# Altium schematic symbol library kmilo17pet-TI_StepDown.SchLib: 565 symbols (part 17 of 33)
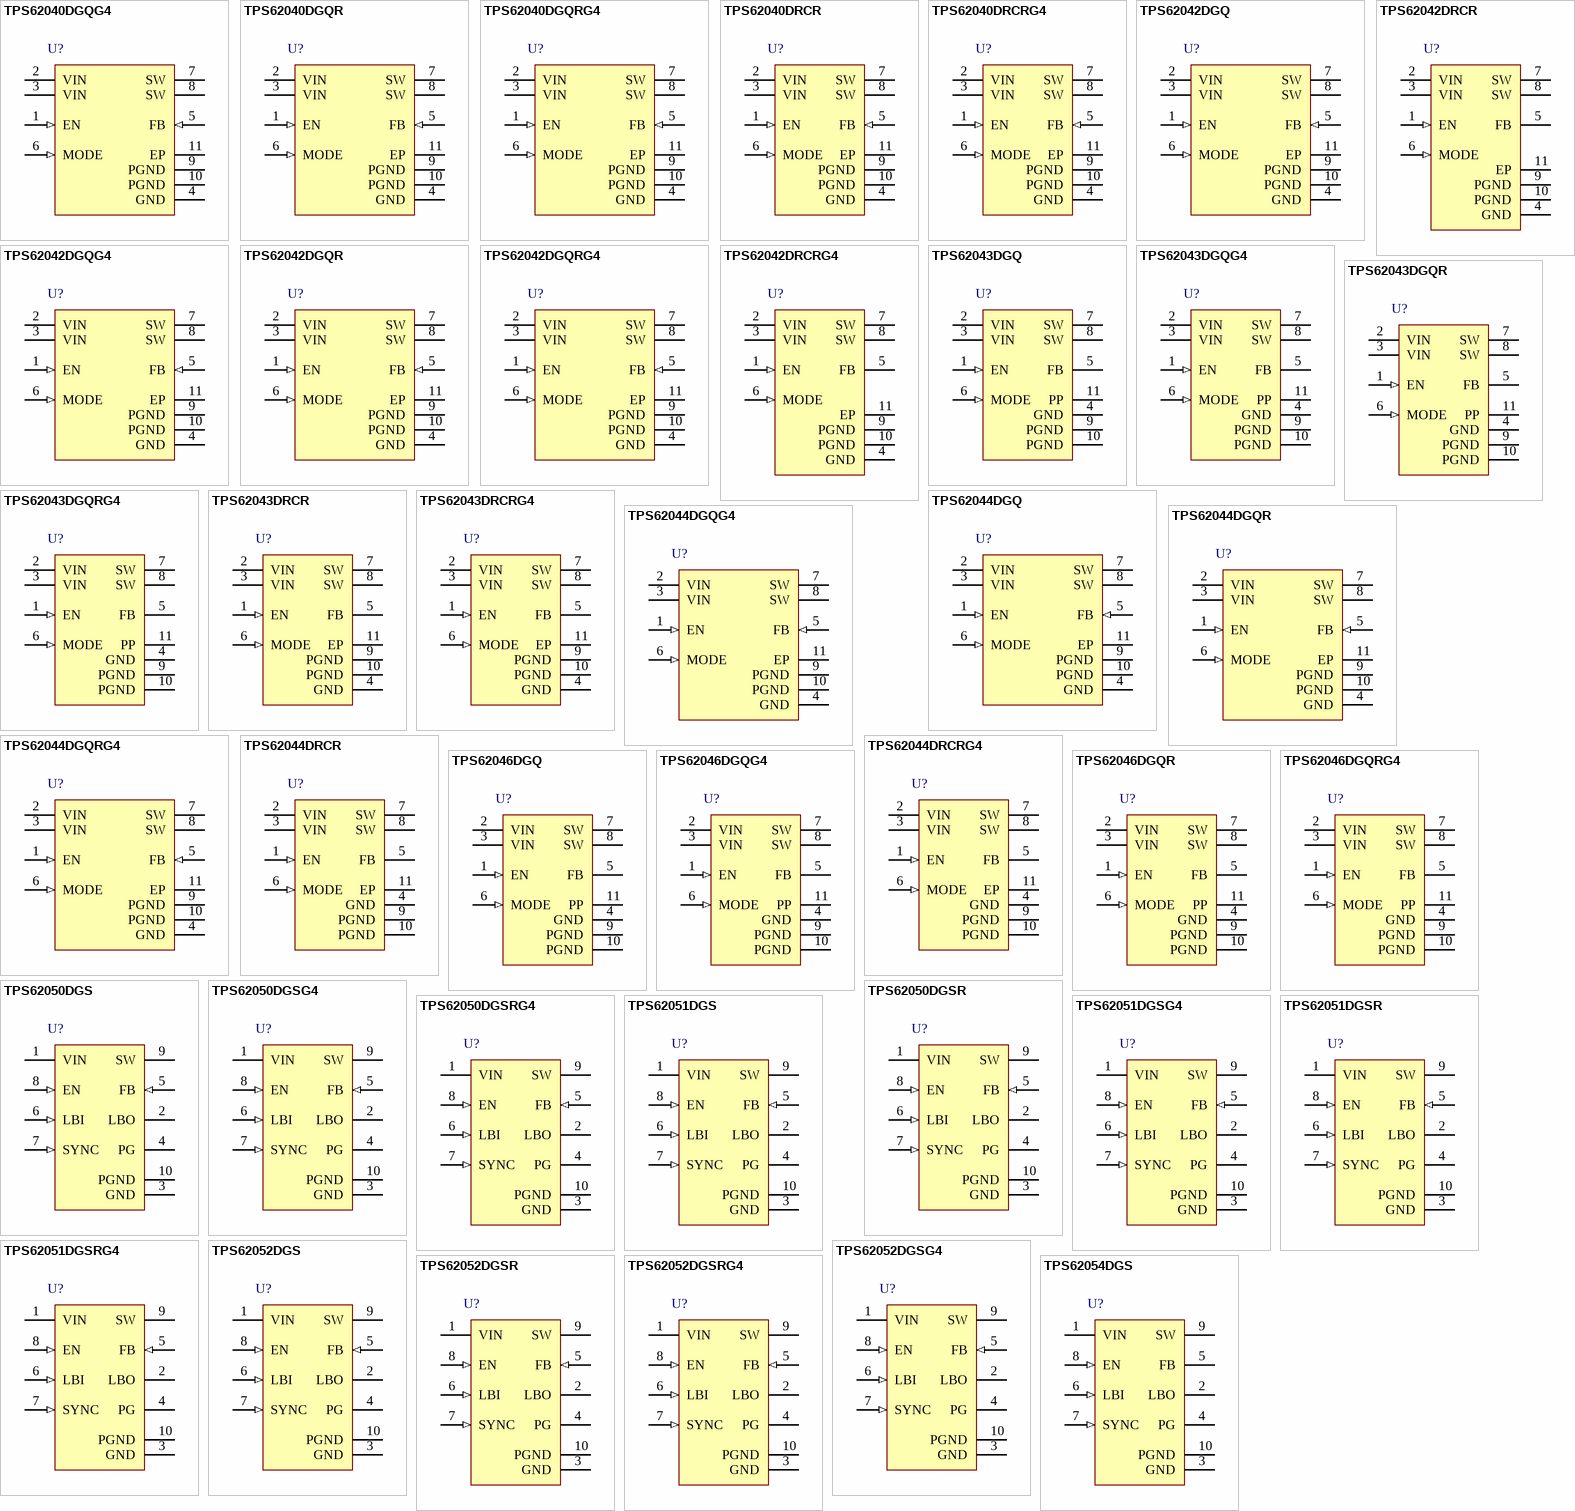
[diagram p35: symbols TPS62040DGQG4 to TPS62054DGS]

## TPS62051DGSR
designator U?
Buck Adjustable Regulator with 2.7 to 10 V Input and 0.7 to 6 V Output, -40 to 85 degC, 10-Pin MSOP (DGS), Green (RoHS & no Sb/Br); Manufacturer: Texas Instruments; PartNumber: TPS62051DGSR; Duty Cycle(Max)(%): 100; Iout(Max)(A): 0.8; Iq(Typ)(mA): 0.012; Rating: Catalog; Regulated Outputs(#): 1; SubFamily: Step-Down Regulator; Switch Current Limit(Typ)(A): 1.4; Synchronous Rectification: TRUE; Vin(Max)(V): 10; Vin(Min)(V): 2.7; Vout(Max)(V): 6; Vout(Min)(V): 0.7; DatasheetVersion: SLVS432E; PackageVersion: revC, Feb-2004; PackageReference: DGS10; PackageDescription: 10-Pin Thin Shrink Small Outline Package 0.5 mm Pitch; Supplier 1: Digi-Key; Supplier Part Number 1: TPS62051DGSR-ND; Eco-Plan: Green (RoHS & no Sb/Br); Topology: Buck; Mounting Technology: Surface Mount; Code_JEDEC: MO-187-BA; ComponentLink1Description: Datasheet; ComponentLink1URL: http://www.ti.com/general/docs/lit/getliterature.tsp?genericPartNumber=TPS62051&fileType=pdf; ComponentLink2Description: Package Specification; ComponentLink2URL: http://www.ti.com/litv/pdf/mpds373; ComponentLink3Description: URL Link1; ComponentLink3URL: Samples URL:http://www.ti.com/product/tps62051#samples
footprint DGS10_N (TSSOP, 10-Leads, Body 3x3mm, Pitch 0.5mm, IPC Medium Density)
footprint DGS10_L (TSSOP, 10-Leads, Body 3x3mm, Pitch 0.5mm, IPC High Density)
footprint DGS10_M (TSSOP, 10-Leads, Body 3x3mm, Pitch 0.5mm, IPC Low Density)
pins: 1 VIN (power) "Supply voltage input", 2 LBO (hiz) "Open drain low battery output. Logic low signal indicates a low battery voltage.", 3 GND (power) "Ground", 4 PG (oc) "Power good comparator output. This is an open-drain output. A pullup resistor should be connected between PG and VOUT. The output floats when the output voltage is greater than 95% of the nominal value.", 5 FB (in) "Feedback pin for the fixed output voltage option. For the adjustable version, an external resistive divider is connected to this pin. The internal voltage divider is disabled for the adjustable version.", 6 LBI (in) "Low battery input", 7 SYNC (in) "Input for synchronization to the external clock signal. This input can be connected to an external clock or pulled to GND or VI . When an external clock signal is applied, the device synchronizes to this external clock and (See Datasheet)", 8 EN (in) "Enable. A logic high enables the converter, logic low forces the device into shutdown mode, reducing the supply current to less than 2 µA.", 9 SW (power) "Connect the inductor to this pin. This pin is the switch pin and connected to the drain of the internal power MOSFETS.", 10 PGND (power) "Power ground. Connect all power grounds to this pin."

## TPS62051DGSRG4
designator U?
Buck Adjustable Regulator with 2.7 to 10 V Input and 0.7 to 6 V Output, -40 to 85 degC, 10-Pin MSOP (DGS), Green (RoHS & no Sb/Br); Manufacturer: Texas Instruments; PartNumber: TPS62051DGSRG4; Duty Cycle(Max)(%): 100; Iout(Max)(A): 0.8; Iq(Typ)(mA): 0.012; Rating: Catalog; Regulated Outputs(#): 1; SubFamily: Step-Down Regulator; Switch Current Limit(Typ)(A): 1.4; Synchronous Rectification: TRUE; Vin(Max)(V): 10; Vin(Min)(V): 2.7; Vout(Max)(V): 6; Vout(Min)(V): 0.7; DatasheetVersion: SLVS432E; PackageVersion: revC, Feb-2004; PackageReference: DGS10; PackageDescription: 10-Pin Thin Shrink Small Outline Package 0.5 mm Pitch; Supplier 1: Digi-Key; Supplier Part Number 1: TPS62051DGSRG4-ND; Eco-Plan: Green (RoHS & no Sb/Br); Topology: Buck; Mounting Technology: Surface Mount; Code_JEDEC: MO-187-BA; ComponentLink1Description: Datasheet; ComponentLink1URL: http://www.ti.com/general/docs/lit/getliterature.tsp?genericPartNumber=TPS62051&fileType=pdf; ComponentLink2Description: Package Specification; ComponentLink2URL: http://www.ti.com/litv/pdf/mpds373; ComponentLink3Description: URL Link1; ComponentLink3URL: Samples URL:http://www.ti.com/product/tps54611#samples
footprint DGS10_N (TSSOP, 10-Leads, Body 3x3mm, Pitch 0.5mm, IPC Medium Density)
footprint DGS10_L (TSSOP, 10-Leads, Body 3x3mm, Pitch 0.5mm, IPC High Density)
footprint DGS10_M (TSSOP, 10-Leads, Body 3x3mm, Pitch 0.5mm, IPC Low Density)
pins: 1 VIN (power) "Supply voltage input", 2 LBO (hiz) "Open drain low battery output. Logic low signal indicates a low battery voltage.", 3 GND (power) "Ground", 4 PG (oc) "Power good comparator output. This is an open-drain output. A pullup resistor should be connected between PG and VOUT. The output floats when the output voltage is greater than 95% of the nominal value.", 5 FB (in) "Feedback pin for the fixed output voltage option. For the adjustable version, an external resistive divider is connected to this pin. The internal voltage divider is disabled for the adjustable version.", 6 LBI (in) "Low battery input", 7 SYNC (in) "Input for synchronization to the external clock signal. This input can be connected to an external clock or pulled to GND or VI . When an external clock signal is applied, the device synchronizes to this external clock and (See Datasheet)", 8 EN (in) "Enable. A logic high enables the converter, logic low forces the device into shutdown mode, reducing the supply current to less than 2 µA.", 9 SW (power) "Connect the inductor to this pin. This pin is the switch pin and connected to the drain of the internal power MOSFETS.", 10 PGND (power) "Power ground. Connect all power grounds to this pin."

## TPS62052DGS
designator U?
Buck Step Down Regulator with 2.7 to 10 V Input and 1.5 V Output, -40 to 85 degC, 10-Pin MSOP (DGS), Green (RoHS & no Sb/Br); Manufacturer: Texas Instruments; PartNumber: TPS62052DGS; Duty Cycle(Max)(%): 100; Iout(Max)(A): 0.8; Iq(Typ)(mA): 0.012; Preset Vout(V): 1.5; Rating: Catalog; Regulated Outputs(#): 1; SubFamily: Step-Down Regulator; Switch Current Limit(Typ)(A): 1.4; Synchronous Rectification: TRUE; Vin(Max)(V): 10; Vin(Min)(V): 2.7; DatasheetVersion: SLVS432E; PackageVersion: revC, Feb-2004; PackageReference: DGS10; PackageDescription: 10-Pin Thin Shrink Small Outline Package 0.5 mm Pitch; Supplier 1: Digi-Key; Supplier Part Number 1: 296-14210-5-ND; Eco-Plan: Green (RoHS & no Sb/Br); Topology: Buck; Vout(Max)(V): 1.5; Vout(Min)(V): 1.5; Mounting Technology: Surface Mount; Code_JEDEC: MO-187-BA; ComponentLink1Description: Datasheet; ComponentLink1URL: http://www.ti.com/general/docs/lit/getliterature.tsp?genericPartNumber=TPS62052&fileType=pdf; ComponentLink2Description: Package Specification; ComponentLink2URL: http://www.ti.com/litv/pdf/mpds373; ComponentLink3Description: URL Link1; ComponentLink3URL: Samples URL:http://www.ti.com/product/tps62052#samples
footprint DGS10_N (TSSOP, 10-Leads, Body 3x3mm, Pitch 0.5mm, IPC Medium Density)
footprint DGS10_L (TSSOP, 10-Leads, Body 3x3mm, Pitch 0.5mm, IPC High Density)
footprint DGS10_M (TSSOP, 10-Leads, Body 3x3mm, Pitch 0.5mm, IPC Low Density)
pins: 1 VIN (power) "Supply voltage input", 2 LBO (hiz) "Open drain low battery output. Logic low signal indicates a low battery voltage.", 3 GND (power) "Ground", 4 PG (oc) "Power good comparator output. This is an open-drain output. A pullup resistor should be connected between PG and VOUT. The output floats when the output voltage is greater than 95% of the nominal value.", 5 FB (in) "Feedback pin for the fixed output voltage option. For the adjustable version, an external resistive divider is connected to this pin. The internal voltage divider is disabled for the adjustable version.", 6 LBI (in) "Low battery input", 7 SYNC (in) "Input for synchronization to the external clock signal. This input can be connected to an external clock or pulled to GND or VI . When an external clock signal is applied, the device synchronizes to this external clock and (See Datasheet)", 8 EN (in) "Enable. A logic high enables the converter, logic low forces the device into shutdown mode, reducing the supply current to less than 2 µA.", 9 SW (power) "Connect the inductor to this pin. This pin is the switch pin and connected to the drain of the internal power MOSFETS.", 10 PGND (power) "Power ground. Connect all power grounds to this pin."

## TPS62052DGSG4
designator U?
Buck Step Down Regulator with 2.7 to 10 V Input and 1.5 V Output, -40 to 85 degC, 10-Pin MSOP (DGS), Green (RoHS & no Sb/Br); Manufacturer: Texas Instruments; PartNumber: TPS62052DGSG4; Duty Cycle(Max)(%): 100; Iout(Max)(A): 0.8; Iq(Typ)(mA): 0.012; Preset Vout(V): 1.5; Rating: Catalog; Regulated Outputs(#): 1; SubFamily: Step-Down Regulator; Switch Current Limit(Typ)(A): 1.4; Synchronous Rectification: TRUE; Vin(Max)(V): 10; Vin(Min)(V): 2.7; DatasheetVersion: SLVS432E; PackageVersion: revC, Feb-2004; PackageReference: DGS10; PackageDescription: 10-Pin Thin Shrink Small Outline Package 0.5 mm Pitch; Supplier 1: Digi-Key; Supplier Part Number 1: TPS62052DGSG4-ND; Eco-Plan: Green (RoHS & no Sb/Br); Topology: Buck; Vout(Max)(V): 1.5; Vout(Min)(V): 1.5; Mounting Technology: Surface Mount; Code_JEDEC: MO-187-BA; ComponentLink1Description: Datasheet; ComponentLink1URL: http://www.ti.com/general/docs/lit/getliterature.tsp?genericPartNumber=TPS62052&fileType=pdf; ComponentLink2Description: Package Specification; ComponentLink2URL: http://www.ti.com/litv/pdf/mpds373; ComponentLink3Description: URL Link1; ComponentLink3URL: Samples URL:http://www.ti.com/product/tps62052#samples
footprint DGS10_N (TSSOP, 10-Leads, Body 3x3mm, Pitch 0.5mm, IPC Medium Density)
footprint DGS10_L (TSSOP, 10-Leads, Body 3x3mm, Pitch 0.5mm, IPC High Density)
footprint DGS10_M (TSSOP, 10-Leads, Body 3x3mm, Pitch 0.5mm, IPC Low Density)
pins: 1 VIN (power) "Supply voltage input", 2 LBO (hiz) "Open drain low battery output. Logic low signal indicates a low battery voltage.", 3 GND (power) "Ground", 4 PG (oc) "Power good comparator output. This is an open-drain output. A pullup resistor should be connected between PG and VOUT. The output floats when the output voltage is greater than 95% of the nominal value.", 5 FB (in) "Feedback pin for the fixed output voltage option. For the adjustable version, an external resistive divider is connected to this pin. The internal voltage divider is disabled for the adjustable version.", 6 LBI (in) "Low battery input", 7 SYNC (in) "Input for synchronization to the external clock signal. This input can be connected to an external clock or pulled to GND or VI . When an external clock signal is applied, the device synchronizes to this external clock and (See Datasheet)", 8 EN (in) "Enable. A logic high enables the converter, logic low forces the device into shutdown mode, reducing the supply current to less than 2 µA.", 9 SW (power) "Connect the inductor to this pin. This pin is the switch pin and connected to the drain of the internal power MOSFETS.", 10 PGND (power) "Power ground. Connect all power grounds to this pin."

## TPS62052DGSR
designator U?
Buck Step Down Regulator with 2.7 to 10 V Input and 1.5 V Output, -40 to 85 degC, 10-Pin MSOP (DGS), Green (RoHS & no Sb/Br); Manufacturer: Texas Instruments; PartNumber: TPS62052DGSR; Duty Cycle(Max)(%): 100; Iout(Max)(A): 0.8; Iq(Typ)(mA): 0.012; Preset Vout(V): 1.5; Rating: Catalog; Regulated Outputs(#): 1; SubFamily: Step-Down Regulator; Switch Current Limit(Typ)(A): 1.4; Synchronous Rectification: TRUE; Vin(Max)(V): 10; Vin(Min)(V): 2.7; DatasheetVersion: SLVS432E; PackageVersion: revC, Feb-2004; PackageReference: DGS10; PackageDescription: 10-Pin Thin Shrink Small Outline Package 0.5 mm Pitch; Supplier 1: Digi-Key; Supplier Part Number 1: TPS62052DGSR-ND; Eco-Plan: Green (RoHS & no Sb/Br); Topology: Buck; Vout(Max)(V): 1.5; Vout(Min)(V): 1.5; Mounting Technology: Surface Mount; Code_JEDEC: MO-187-BA; ComponentLink1Description: Datasheet; ComponentLink1URL: http://www.ti.com/general/docs/lit/getliterature.tsp?genericPartNumber=TPS62052&fileType=pdf; ComponentLink2Description: Package Specification; ComponentLink2URL: http://www.ti.com/litv/pdf/mpds373; ComponentLink3Description: URL Link1; ComponentLink3URL: Samples URL:http://www.ti.com/product/tps62052#samples
footprint DGS10_N (TSSOP, 10-Leads, Body 3x3mm, Pitch 0.5mm, IPC Medium Density)
footprint DGS10_L (TSSOP, 10-Leads, Body 3x3mm, Pitch 0.5mm, IPC High Density)
footprint DGS10_M (TSSOP, 10-Leads, Body 3x3mm, Pitch 0.5mm, IPC Low Density)
pins: 1 VIN (power) "Supply voltage input", 2 LBO (hiz) "Open drain low battery output. Logic low signal indicates a low battery voltage.", 3 GND (power) "Ground", 4 PG (oc) "Power good comparator output. This is an open-drain output. A pullup resistor should be connected between PG and VOUT. The output floats when the output voltage is greater than 95% of the nominal value.", 5 FB (in) "Feedback pin for the fixed output voltage option. For the adjustable version, an external resistive divider is connected to this pin. The internal voltage divider is disabled for the adjustable version.", 6 LBI (in) "Low battery input", 7 SYNC (in) "Input for synchronization to the external clock signal. This input can be connected to an external clock or pulled to GND or VI . When an external clock signal is applied, the device synchronizes to this external clock and (See Datasheet)", 8 EN (in) "Enable. A logic high enables the converter, logic low forces the device into shutdown mode, reducing the supply current to less than 2 µA.", 9 SW (power) "Connect the inductor to this pin. This pin is the switch pin and connected to the drain of the internal power MOSFETS.", 10 PGND (power) "Power ground. Connect all power grounds to this pin."

## TPS62052DGSRG4
designator U?
Buck Step Down Regulator with 2.7 to 10 V Input and 1.5 V Output, -40 to 85 degC, 10-Pin MSOP (DGS), Green (RoHS & no Sb/Br); Manufacturer: Texas Instruments; PartNumber: TPS62052DGSRG4; Duty Cycle(Max)(%): 100; Iout(Max)(A): 0.8; Iq(Typ)(mA): 0.012; Preset Vout(V): 1.5; Rating: Catalog; Regulated Outputs(#): 1; SubFamily: Step-Down Regulator; Switch Current Limit(Typ)(A): 1.4; Synchronous Rectification: TRUE; Vin(Max)(V): 10; Vin(Min)(V): 2.7; DatasheetVersion: SLVS432E; PackageVersion: revC, Feb-2004; PackageReference: DGS10; PackageDescription: 10-Pin Thin Shrink Small Outline Package 0.5 mm Pitch; Supplier 1: Digi-Key; Supplier Part Number 1: TPS62052DGSRG4-ND; Eco-Plan: Green (RoHS & no Sb/Br); Topology: Buck; Vout(Max)(V): 1.5; Vout(Min)(V): 1.5; Mounting Technology: Surface Mount; Code_JEDEC: MO-187-BA; ComponentLink1Description: Datasheet; ComponentLink1URL: http://www.ti.com/general/docs/lit/getliterature.tsp?genericPartNumber=TPS62052&fileType=pdf; ComponentLink2Description: Package Specification; ComponentLink2URL: http://www.ti.com/litv/pdf/mpds373; ComponentLink3Description: URL Link1; ComponentLink3URL: Samples URL:http://www.ti.com/product/tps54611#samples
footprint DGS10_N (TSSOP, 10-Leads, Body 3x3mm, Pitch 0.5mm, IPC Medium Density)
footprint DGS10_L (TSSOP, 10-Leads, Body 3x3mm, Pitch 0.5mm, IPC High Density)
footprint DGS10_M (TSSOP, 10-Leads, Body 3x3mm, Pitch 0.5mm, IPC Low Density)
pins: 1 VIN (power) "Supply voltage input", 2 LBO (hiz) "Open drain low battery output. Logic low signal indicates a low battery voltage.", 3 GND (power) "Ground", 4 PG (oc) "Power good comparator output. This is an open-drain output. A pullup resistor should be connected between PG and VOUT. The output floats when the output voltage is greater than 95% of the nominal value.", 5 FB (in) "Feedback pin for the fixed output voltage option. For the adjustable version, an external resistive divider is connected to this pin. The internal voltage divider is disabled for the adjustable version.", 6 LBI (in) "Low battery input", 7 SYNC (in) "Input for synchronization to the external clock signal. This input can be connected to an external clock or pulled to GND or VI . When an external clock signal is applied, the device synchronizes to this external clock and (See Datasheet)", 8 EN (in) "Enable. A logic high enables the converter, logic low forces the device into shutdown mode, reducing the supply current to less than 2 µA.", 9 SW (power) "Connect the inductor to this pin. This pin is the switch pin and connected to the drain of the internal power MOSFETS.", 10 PGND (power) "Power ground. Connect all power grounds to this pin."

## TPS62054DGS
designator U?
Buck Step Down Regulator with 2.7 to 10 V Input and 1.8 V Output, -40 to 85 degC, 10-Pin MSOP (DGS), Green (RoHS & no Sb/Br); Manufacturer: Texas Instruments; PartNumber: TPS62054DGS; Duty Cycle(Max)(%): 100; Iout(Max)(A): 0.8; Iq(Typ)(mA): 0.012; Preset Vout(V): 1.8; Rating: Catalog; Regulated Outputs(#): 1; SubFamily: Step-Down Regulator; Switch Current Limit(Typ)(A): 1.4; Synchronous Rectification: TRUE; Vin(Max)(V): 10; Vin(Min)(V): 2.7; DatasheetVersion: SLVS432E; PackageVersion: revC, Feb-2004; PackageReference: DGS10; PackageDescription: 10-Pin Thin Shrink Small Outline Package 0.5 mm Pitch; Supplier 1: Digi-Key; Supplier Part Number 1: 296-14211-5-ND; Eco-Plan: Green (RoHS & no Sb/Br); Topology: Buck; Vout(Max)(V): 1.8; Vout(Min)(V): 1.8; Mounting Technology: Surface Mount; Code_JEDEC: MO-187-BA; ComponentLink1Description: Datasheet; ComponentLink1URL: http://www.ti.com/general/docs/lit/getliterature.tsp?genericPartNumber=TPS62054&fileType=pdf; ComponentLink2Description: Package Specification; ComponentLink2URL: http://www.ti.com/litv/pdf/mpds373; ComponentLink3Description: URL Link1; ComponentLink3URL: Samples URL:http://www.ti.com/product/tps62054#samples
footprint DGS10_N (TSSOP, 10-Leads, Body 3x3mm, Pitch 0.5mm, IPC Medium Density)
footprint DGS10_L (TSSOP, 10-Leads, Body 3x3mm, Pitch 0.5mm, IPC High Density)
footprint DGS10_M (TSSOP, 10-Leads, Body 3x3mm, Pitch 0.5mm, IPC Low Density)
pins: 1 VIN (power) "Supply voltage input.", 2 LBO (hiz) "Open drain low battery output. Logic low signal indicates a low battery voltage.", 3 GND (power) "Ground.", 4 PG (oc) "Power good comparator output. This is an open-drain output. A pullup resistor should be connected between PG and VOUT. The output floats when the output voltage is greater than 95% of the nominal value.", 5 FB "Feedback pin for the fixed output voltage option. For the adjustable version, an external resistive divider is connected to this pin. The internal voltage divider is disabled for the adjustable version.", 6 LBI (in) "Low battery input.", 7 SYNC (in) "Input for synchronization to the external clock signal. This input can be connected to an external clock or pulled to GND or VI. When an external clock signal is applied, the device synchronizes to this external clock and (See Datasheet)", 8 EN (in) "Enable. A logic high enables the converter, logic low forces the device into shutdown mode, reducing the supply current to less than 2 uA.", 9 SW (power) "Connect the inductor to this pin. This pin is the switch pin and connected to the drain of the internal power MOSFETS.", 10 PGND (power) "Power ground. Connect all power grounds to this pin."

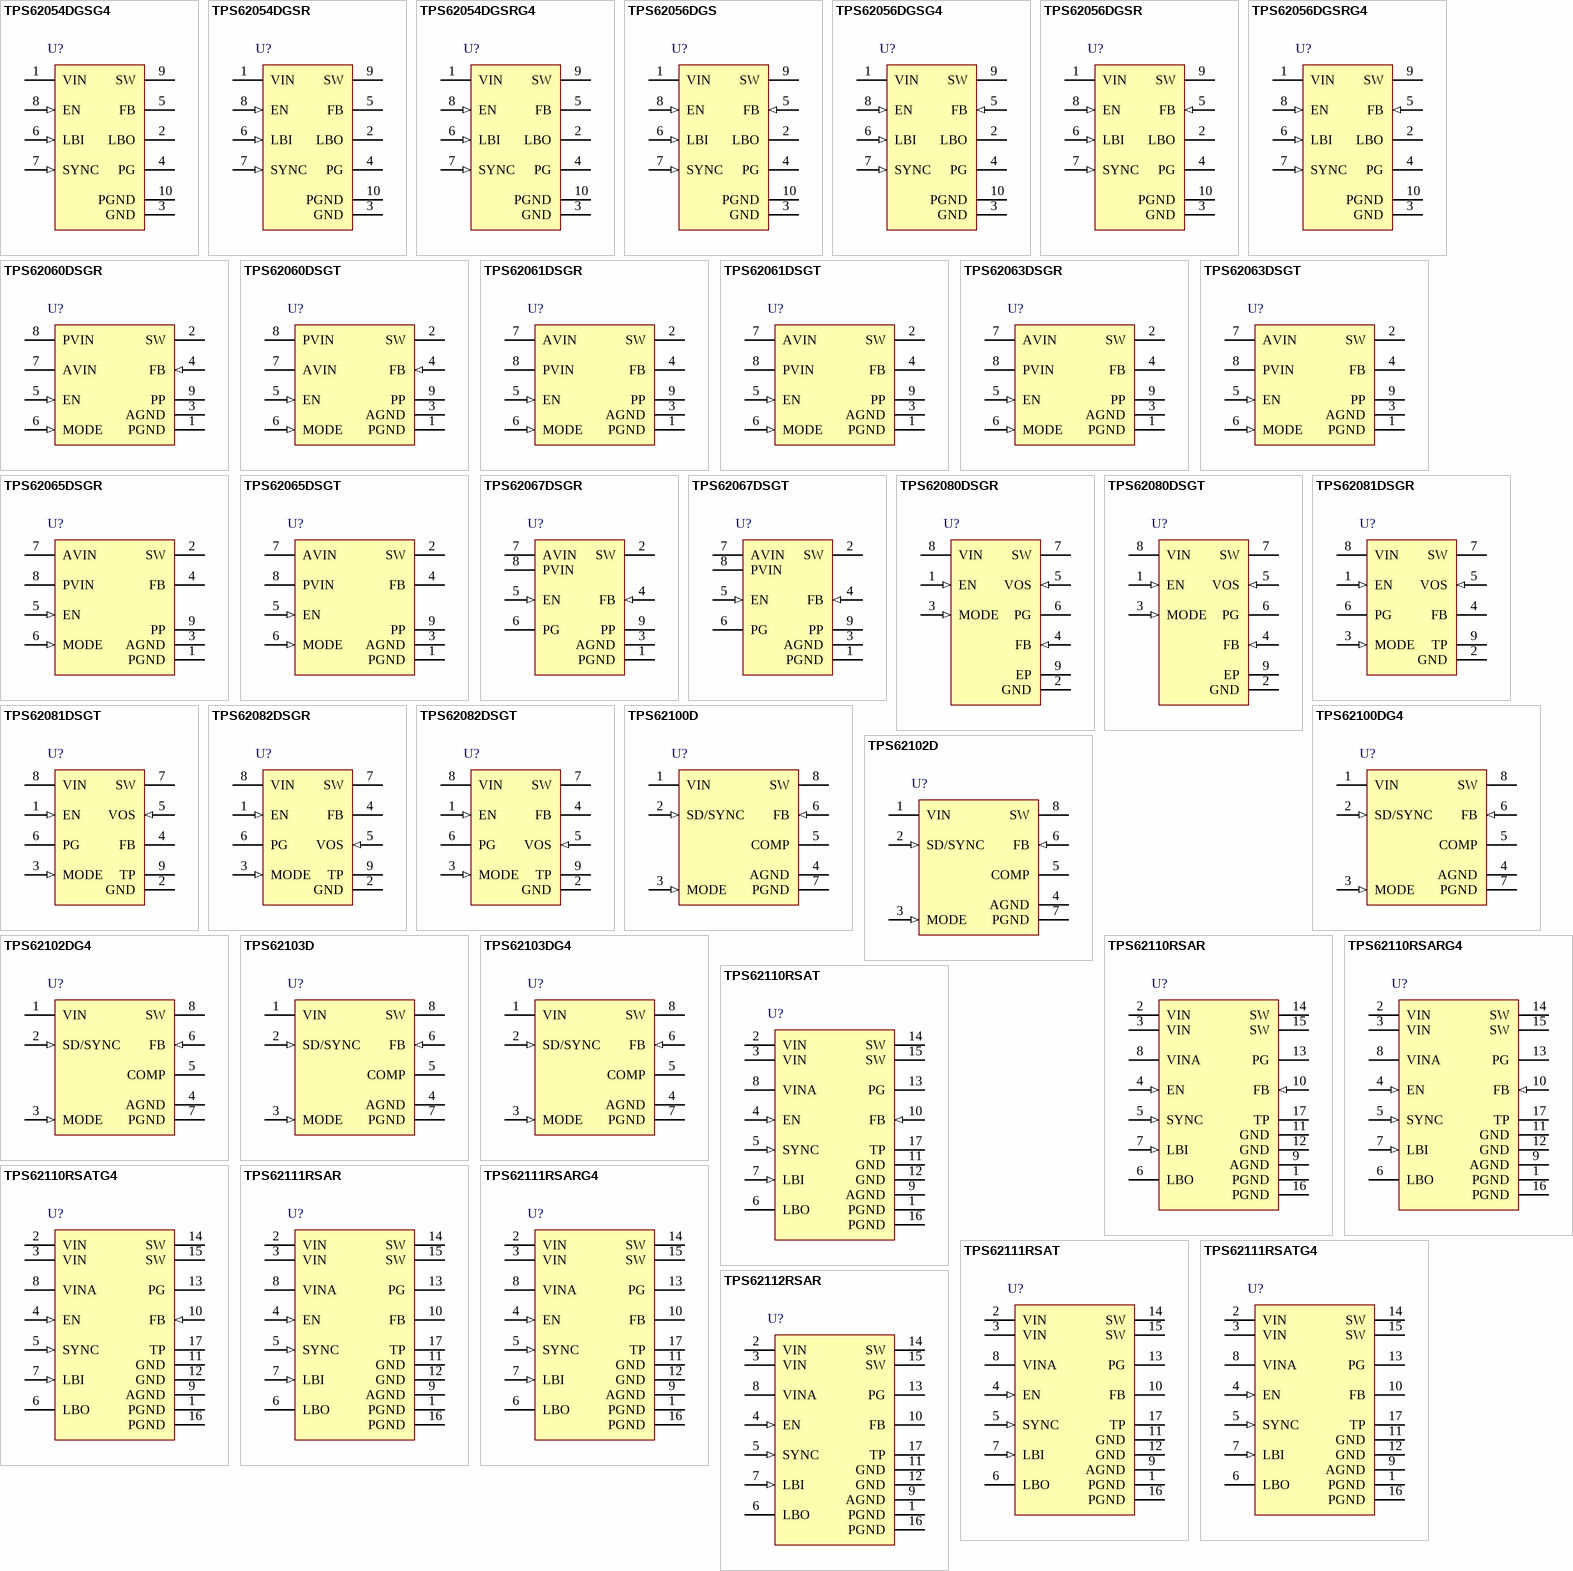
[diagram p9: symbols TPS62054DGSG4 to TPS62112RSAR]

## TPS62054DGSG4
designator U?
Buck Step Down Regulator with 2.7 to 10 V Input and 1.8 V Output, -40 to 85 degC, 10-Pin MSOP (DGS), Green (RoHS & no Sb/Br); Manufacturer: Texas Instruments; PartNumber: TPS62054DGSG4; Duty Cycle(Max)(%): 100; Iout(Max)(A): 0.8; Iq(Typ)(mA): 0.012; Preset Vout(V): 1.8; Rating: Catalog; Regulated Outputs(#): 1; SubFamily: Step-Down Regulator; Switch Current Limit(Typ)(A): 1.4; Synchronous Rectification: TRUE; Vin(Max)(V): 10; Vin(Min)(V): 2.7; DatasheetVersion: SLVS432E; PackageVersion: revC, Feb-2004; PackageReference: DGS10; PackageDescription: 10-Pin Thin Shrink Small Outline Package 0.5 mm Pitch; Supplier 1: Digi-Key; Supplier Part Number 1: TPS62054DGSG4-ND; Eco-Plan: Green (RoHS & no Sb/Br); Topology: Buck; Vout(Max)(V): 1.8; Vout(Min)(V): 1.8; Mounting Technology: Surface Mount; Code_JEDEC: MO-187-BA; ComponentLink1Description: Datasheet; ComponentLink1URL: http://www.ti.com/general/docs/lit/getliterature.tsp?genericPartNumber=TPS62054&fileType=pdf; ComponentLink2Description: Package Specification; ComponentLink2URL: http://www.ti.com/litv/pdf/mpds373; ComponentLink3Description: URL Link1; ComponentLink3URL: Samples URL:http://www.ti.com/product/tps62054#samples
footprint DGS10_N (TSSOP, 10-Leads, Body 3x3mm, Pitch 0.5mm, IPC Medium Density)
footprint DGS10_L (TSSOP, 10-Leads, Body 3x3mm, Pitch 0.5mm, IPC High Density)
footprint DGS10_M (TSSOP, 10-Leads, Body 3x3mm, Pitch 0.5mm, IPC Low Density)
pins: 1 VIN (power) "Supply voltage input.", 2 LBO (hiz) "Open drain low battery output. Logic low signal indicates a low battery voltage.", 3 GND (power) "Ground.", 4 PG (oc) "Power good comparator output. This is an open-drain output. A pullup resistor should be connected between PG and VOUT. The output floats when the output voltage is greater than 95% of the nominal value.", 5 FB "Feedback pin for the fixed output voltage option. For the adjustable version, an external resistive divider is connected to this pin. The internal voltage divider is disabled for the adjustable version.", 6 LBI (in) "Low battery input.", 7 SYNC (in) "Input for synchronization to the external clock signal. This input can be connected to an external clock or pulled to GND or VI. When an external clock signal is applied, the device synchronizes to this external clock and (See Datasheet)", 8 EN (in) "Enable. A logic high enables the converter, logic low forces the device into shutdown mode, reducing the supply current to less than 2 uA.", 9 SW (power) "Connect the inductor to this pin. This pin is the switch pin and connected to the drain of the internal power MOSFETS.", 10 PGND (power) "Power ground. Connect all power grounds to this pin."

## TPS62054DGSR
designator U?
Buck Step Down Regulator with 2.7 to 10 V Input and 1.8 V Output, -40 to 85 degC, 10-Pin MSOP (DGS), Green (RoHS & no Sb/Br); Manufacturer: Texas Instruments; PartNumber: TPS62054DGSR; Duty Cycle(Max)(%): 100; Iout(Max)(A): 0.8; Iq(Typ)(mA): 0.012; Preset Vout(V): 1.8; Rating: Catalog; Regulated Outputs(#): 1; SubFamily: Step-Down Regulator; Switch Current Limit(Typ)(A): 1.4; Synchronous Rectification: TRUE; Vin(Max)(V): 10; Vin(Min)(V): 2.7; DatasheetVersion: SLVS432E; PackageVersion: revC, Feb-2004; PackageReference: DGS10; PackageDescription: 10-Pin Thin Shrink Small Outline Package 0.5 mm Pitch; Supplier 1: Digi-Key; Supplier Part Number 1: TPS62054DGSR-ND; Eco-Plan: Green (RoHS & no Sb/Br); Topology: Buck; Vout(Max)(V): 1.8; Vout(Min)(V): 1.8; Mounting Technology: Surface Mount; Code_JEDEC: MO-187-BA; ComponentLink1Description: Datasheet; ComponentLink1URL: http://www.ti.com/general/docs/lit/getliterature.tsp?genericPartNumber=TPS62054&fileType=pdf; ComponentLink2Description: Package Specification; ComponentLink2URL: http://www.ti.com/litv/pdf/mpds373; ComponentLink3Description: URL Link1; ComponentLink3URL: Samples URL:http://www.ti.com/product/tps62054#samples
footprint DGS10_N (TSSOP, 10-Leads, Body 3x3mm, Pitch 0.5mm, IPC Medium Density)
footprint DGS10_L (TSSOP, 10-Leads, Body 3x3mm, Pitch 0.5mm, IPC High Density)
footprint DGS10_M (TSSOP, 10-Leads, Body 3x3mm, Pitch 0.5mm, IPC Low Density)
pins: 1 VIN (power) "Supply voltage input.", 2 LBO (hiz) "Open drain low battery output. Logic low signal indicates a low battery voltage.", 3 GND (power) "Ground.", 4 PG (oc) "Power good comparator output. This is an open-drain output. A pullup resistor should be connected between PG and VOUT. The output floats when the output voltage is greater than 95% of the nominal value.", 5 FB "Feedback pin for the fixed output voltage option. For the adjustable version, an external resistive divider is connected to this pin. The internal voltage divider is disabled for the adjustable version.", 6 LBI (in) "Low battery input.", 7 SYNC (in) "Input for synchronization to the external clock signal. This input can be connected to an external clock or pulled to GND or VI. When an external clock signal is applied, the device synchronizes to this external clock and (See Datasheet)", 8 EN (in) "Enable. A logic high enables the converter, logic low forces the device into shutdown mode, reducing the supply current to less than 2 uA.", 9 SW (power) "Connect the inductor to this pin. This pin is the switch pin and connected to the drain of the internal power MOSFETS.", 10 PGND (power) "Power ground. Connect all power grounds to this pin."

## TPS62054DGSRG4
designator U?
Buck Step Down Regulator with 2.7 to 10 V Input and 1.8 V Output, -40 to 85 degC, 10-Pin MSOP (DGS), Green (RoHS & no Sb/Br); Manufacturer: Texas Instruments; PartNumber: TPS62054DGSRG4; Duty Cycle(Max)(%): 100; Iout(Max)(A): 0.8; Iq(Typ)(mA): 0.012; Preset Vout(V): 1.8; Rating: Catalog; Regulated Outputs(#): 1; SubFamily: Step-Down Regulator; Switch Current Limit(Typ)(A): 1.4; Synchronous Rectification: TRUE; Vin(Max)(V): 10; Vin(Min)(V): 2.7; DatasheetVersion: SLVS432E; PackageVersion: revC, Feb-2004; PackageReference: DGS10; PackageDescription: 10-Pin Thin Shrink Small Outline Package 0.5 mm Pitch; Supplier 1: Digi-Key; Supplier Part Number 1: TPS62054DGSRG4-ND; Eco-Plan: Green (RoHS & no Sb/Br); Topology: Buck; Vout(Max)(V): 1.8; Vout(Min)(V): 1.8; Mounting Technology: Surface Mount; Code_JEDEC: MO-187-BA; ComponentLink1Description: Datasheet; ComponentLink1URL: http://www.ti.com/general/docs/lit/getliterature.tsp?genericPartNumber=TPS62054&fileType=pdf; ComponentLink2Description: Package Specification; ComponentLink2URL: http://www.ti.com/litv/pdf/mpds373; ComponentLink3Description: URL Link1; ComponentLink3URL: Samples URL:http://www.ti.com/product/tps62054#samples
footprint DGS10_N (TSSOP, 10-Leads, Body 3x3mm, Pitch 0.5mm, IPC Medium Density)
footprint DGS10_L (TSSOP, 10-Leads, Body 3x3mm, Pitch 0.5mm, IPC High Density)
footprint DGS10_M (TSSOP, 10-Leads, Body 3x3mm, Pitch 0.5mm, IPC Low Density)
pins: 1 VIN (power) "Supply voltage input.", 2 LBO (hiz) "Open drain low battery output. Logic low signal indicates a low battery voltage.", 3 GND (power) "Ground.", 4 PG (oc) "Power good comparator output. This is an open-drain output. A pullup resistor should be connected between PG and VOUT. The output floats when the output voltage is greater than 95% of the nominal value.", 5 FB "Feedback pin for the fixed output voltage option. For the adjustable version, an external resistive divider is connected to this pin. The internal voltage divider is disabled for the adjustable version.", 6 LBI (in) "Low battery input.", 7 SYNC (in) "Input for synchronization to the external clock signal. This input can be connected to an external clock or pulled to GND or VI. When an external clock signal is applied, the device synchronizes to this external clock and (See Datasheet)", 8 EN (in) "Enable. A logic high enables the converter, logic low forces the device into shutdown mode, reducing the supply current to less than 2 uA.", 9 SW (power) "Connect the inductor to this pin. This pin is the switch pin and connected to the drain of the internal power MOSFETS.", 10 PGND (power) "Power ground. Connect all power grounds to this pin."

## TPS62056DGS
designator U?
Buck Step Down Regulator with 2.7 to 10 V Input and 3.3 V Output, -40 to 85 degC, 10-Pin MSOP (DGS), Green (RoHS & no Sb/Br); Manufacturer: Texas Instruments; PartNumber: TPS62056DGS; Duty Cycle(Max)(%): 100; Iout(Max)(A): 0.8; Iq(Typ)(mA): 0.012; Preset Vout(V): 3.3; Rating: Catalog; Regulated Outputs(#): 1; SubFamily: Step-Down Regulator; Switch Current Limit(Typ)(A): 1.4; Synchronous Rectification: TRUE; Vin(Max)(V): 10; Vin(Min)(V): 2.7; DatasheetVersion: SLVS432E; PackageVersion: revC, Feb-2004; PackageReference: DGS10; PackageDescription: 10-Pin Thin Shrink Small Outline Package 0.5 mm Pitch; Supplier 1: Digi-Key; Supplier Part Number 1: 296-14212-5-ND; Eco-Plan: Green (RoHS & no Sb/Br); Topology: Buck; Vout(Max)(V): 3.3; Vout(Min)(V): 3.3; Mounting Technology: Surface Mount; Code_JEDEC: MO-187-BA; ComponentLink1Description: Datasheet; ComponentLink1URL: http://www.ti.com/general/docs/lit/getliterature.tsp?genericPartNumber=TPS62056&fileType=pdf; ComponentLink2Description: Package Specification; ComponentLink2URL: http://www.ti.com/litv/pdf/mpds373; ComponentLink3Description: URL Link1; ComponentLink3URL: Samples URL:http://www.ti.com/product/tps62056#samples
footprint DGS10_N (TSSOP, 10-Leads, Body 3x3mm, Pitch 0.5mm, IPC Medium Density)
footprint DGS10_L (TSSOP, 10-Leads, Body 3x3mm, Pitch 0.5mm, IPC High Density)
footprint DGS10_M (TSSOP, 10-Leads, Body 3x3mm, Pitch 0.5mm, IPC Low Density)
pins: 1 VIN (power) "Supply voltage input", 2 LBO (hiz) "Open drain low battery output. Logic low signal indicates a low battery voltage.", 3 GND (power) "Ground", 4 PG (oc) "Power good comparator output. This is an open-drain output. A pullup resistor should be connected between PG and VOUT. The output floats when the output voltage is greater than 95% of the nominal value.", 5 FB (in) "Feedback pin for the fixed output voltage option. For the adjustable version, an external resistive divider is connected to this pin. The internal voltage divider is disabled for the adjustable version.", 6 LBI (in) "Low battery input", 7 SYNC (in) "Input for synchronization to the external clock signal. This input can be connected to an external clock or pulled to GND or VI . When an external clock signal is applied, the device synchronizes to this external clock and (See Datasheet)", 8 EN (in) "Enable. A logic high enables the converter, logic low forces the device into shutdown mode, reducing the supply current to less than 2 µA.", 9 SW (power) "Connect the inductor to this pin. This pin is the switch pin and connected to the drain of the internal power MOSFETS.", 10 PGND (power) "Power ground. Connect all power grounds to this pin."

## TPS62056DGSG4
designator U?
Buck Step Down Regulator with 2.7 to 10 V Input and 3.3 V Output, -40 to 85 degC, 10-Pin MSOP (DGS), Green (RoHS & no Sb/Br); Manufacturer: Texas Instruments; PartNumber: TPS62056DGSG4; Duty Cycle(Max)(%): 100; Iout(Max)(A): 0.8; Iq(Typ)(mA): 0.012; Preset Vout(V): 3.3; Rating: Catalog; Regulated Outputs(#): 1; SubFamily: Step-Down Regulator; Switch Current Limit(Typ)(A): 1.4; Synchronous Rectification: TRUE; Vin(Max)(V): 10; Vin(Min)(V): 2.7; DatasheetVersion: SLVS432E; PackageVersion: revC, Feb-2004; PackageReference: DGS10; PackageDescription: 10-Pin Thin Shrink Small Outline Package 0.5 mm Pitch; Supplier 1: Digi-Key; Supplier Part Number 1: TPS62056DGSG4-ND; Eco-Plan: Green (RoHS & no Sb/Br); Topology: Buck; Vout(Max)(V): 3.3; Vout(Min)(V): 3.3; Mounting Technology: Surface Mount; Code_JEDEC: MO-187-BA; ComponentLink1Description: Datasheet; ComponentLink1URL: http://www.ti.com/general/docs/lit/getliterature.tsp?genericPartNumber=TPS62056&fileType=pdf; ComponentLink2Description: Package Specification; ComponentLink2URL: http://www.ti.com/litv/pdf/mpds373; ComponentLink3Description: URL Link1; ComponentLink3URL: Samples URL:http://www.ti.com/product/tps62056#samples
footprint DGS10_N (TSSOP, 10-Leads, Body 3x3mm, Pitch 0.5mm, IPC Medium Density)
footprint DGS10_L (TSSOP, 10-Leads, Body 3x3mm, Pitch 0.5mm, IPC High Density)
footprint DGS10_M (TSSOP, 10-Leads, Body 3x3mm, Pitch 0.5mm, IPC Low Density)
pins: 1 VIN (power) "Supply voltage input", 2 LBO (hiz) "Open drain low battery output. Logic low signal indicates a low battery voltage.", 3 GND (power) "Ground", 4 PG (oc) "Power good comparator output. This is an open-drain output. A pullup resistor should be connected between PG and VOUT. The output floats when the output voltage is greater than 95% of the nominal value.", 5 FB (in) "Feedback pin for the fixed output voltage option. For the adjustable version, an external resistive divider is connected to this pin. The internal voltage divider is disabled for the adjustable version.", 6 LBI (in) "Low battery input", 7 SYNC (in) "Input for synchronization to the external clock signal. This input can be connected to an external clock or pulled to GND or VI . When an external clock signal is applied, the device synchronizes to this external clock and (See Datasheet)", 8 EN (in) "Enable. A logic high enables the converter, logic low forces the device into shutdown mode, reducing the supply current to less than 2 µA.", 9 SW (power) "Connect the inductor to this pin. This pin is the switch pin and connected to the drain of the internal power MOSFETS.", 10 PGND (power) "Power ground. Connect all power grounds to this pin."

## TPS62056DGSR
designator U?
Buck Step Down Regulator with 2.7 to 10 V Input and 3.3 V Output, -40 to 85 degC, 10-Pin MSOP (DGS), Green (RoHS & no Sb/Br); Manufacturer: Texas Instruments; PartNumber: TPS62056DGSR; Duty Cycle(Max)(%): 100; Iout(Max)(A): 0.8; Iq(Typ)(mA): 0.012; Preset Vout(V): 3.3; Rating: Catalog; Regulated Outputs(#): 1; SubFamily: Step-Down Regulator; Switch Current Limit(Typ)(A): 1.4; Synchronous Rectification: TRUE; Vin(Max)(V): 10; Vin(Min)(V): 2.7; DatasheetVersion: SLVS432E; PackageVersion: revC, Feb-2004; PackageReference: DGS10; PackageDescription: 10-Pin Thin Shrink Small Outline Package 0.5 mm Pitch; Supplier 1: Digi-Key; Supplier Part Number 1: 296-27024-2-ND; Eco-Plan: Green (RoHS & no Sb/Br); Topology: Buck; Vout(Max)(V): 3.3; Vout(Min)(V): 3.3; Mounting Technology: Surface Mount; Code_JEDEC: MO-187-BA; ComponentLink1Description: Datasheet; ComponentLink1URL: http://www.ti.com/general/docs/lit/getliterature.tsp?genericPartNumber=TPS62056&fileType=pdf; ComponentLink2Description: Package Specification; ComponentLink2URL: http://www.ti.com/litv/pdf/mpds373; ComponentLink3Description: URL Link1; ComponentLink3URL: Samples URL:http://www.ti.com/product/tps62056#samples
footprint DGS10_N (TSSOP, 10-Leads, Body 3x3mm, Pitch 0.5mm, IPC Medium Density)
footprint DGS10_L (TSSOP, 10-Leads, Body 3x3mm, Pitch 0.5mm, IPC High Density)
footprint DGS10_M (TSSOP, 10-Leads, Body 3x3mm, Pitch 0.5mm, IPC Low Density)
pins: 1 VIN (power) "Supply voltage input", 2 LBO (hiz) "Open drain low battery output. Logic low signal indicates a low battery voltage.", 3 GND (power) "Ground", 4 PG (oc) "Power good comparator output. This is an open-drain output. A pullup resistor should be connected between PG and VOUT. The output floats when the output voltage is greater than 95% of the nominal value.", 5 FB (in) "Feedback pin for the fixed output voltage option. For the adjustable version, an external resistive divider is connected to this pin. The internal voltage divider is disabled for the adjustable version.", 6 LBI (in) "Low battery input", 7 SYNC (in) "Input for synchronization to the external clock signal. This input can be connected to an external clock or pulled to GND or VI . When an external clock signal is applied, the device synchronizes to this external clock and (See Datasheet)", 8 EN (in) "Enable. A logic high enables the converter, logic low forces the device into shutdown mode, reducing the supply current to less than 2 µA.", 9 SW (power) "Connect the inductor to this pin. This pin is the switch pin and connected to the drain of the internal power MOSFETS.", 10 PGND (power) "Power ground. Connect all power grounds to this pin."

## TPS62056DGSRG4
designator U?
Buck Step Down Regulator with 2.7 to 10 V Input and 3.3 V Output, -40 to 85 degC, 10-Pin MSOP (DGS), Green (RoHS & no Sb/Br); Manufacturer: Texas Instruments; PartNumber: TPS62056DGSRG4; Duty Cycle(Max)(%): 100; Iout(Max)(A): 0.8; Iq(Typ)(mA): 0.012; Preset Vout(V): 3.3; Rating: Catalog; Regulated Outputs(#): 1; SubFamily: Step-Down Regulator; Switch Current Limit(Typ)(A): 1.4; Synchronous Rectification: TRUE; Vin(Max)(V): 10; Vin(Min)(V): 2.7; DatasheetVersion: SLVS432E; PackageVersion: revC, Feb-2004; PackageReference: DGS10; PackageDescription: 10-Pin Thin Shrink Small Outline Package 0.5 mm Pitch; Supplier 1: Digi-Key; Supplier Part Number 1: TPS62056DGSRG4-ND; Eco-Plan: Green (RoHS & no Sb/Br); Topology: Buck; Vout(Max)(V): 3.3; Vout(Min)(V): 3.3; Mounting Technology: Surface Mount; Code_JEDEC: MO-187-BA; ComponentLink1Description: Datasheet; ComponentLink1URL: http://www.ti.com/general/docs/lit/getliterature.tsp?genericPartNumber=TPS62056&fileType=pdf; ComponentLink2Description: Package Specification; ComponentLink2URL: http://www.ti.com/litv/pdf/mpds373; ComponentLink3Description: URL Link1; ComponentLink3URL: Samples URL:http://www.ti.com/product/tps62056#samples
footprint DGS10_N (TSSOP, 10-Leads, Body 3x3mm, Pitch 0.5mm, IPC Medium Density)
footprint DGS10_L (TSSOP, 10-Leads, Body 3x3mm, Pitch 0.5mm, IPC High Density)
footprint DGS10_M (TSSOP, 10-Leads, Body 3x3mm, Pitch 0.5mm, IPC Low Density)
pins: 1 VIN (power) "Supply voltage input", 2 LBO (hiz) "Open drain low battery output. Logic low signal indicates a low battery voltage.", 3 GND (power) "Ground", 4 PG (oc) "Power good comparator output. This is an open-drain output. A pullup resistor should be connected between PG and VOUT. The output floats when the output voltage is greater than 95% of the nominal value.", 5 FB (in) "Feedback pin for the fixed output voltage option. For the adjustable version, an external resistive divider is connected to this pin. The internal voltage divider is disabled for the adjustable version.", 6 LBI (in) "Low battery input", 7 SYNC (in) "Input for synchronization to the external clock signal. This input can be connected to an external clock or pulled to GND or VI . When an external clock signal is applied, the device synchronizes to this external clock and (See Datasheet)", 8 EN (in) "Enable. A logic high enables the converter, logic low forces the device into shutdown mode, reducing the supply current to less than 2 µA.", 9 SW (power) "Connect the inductor to this pin. This pin is the switch pin and connected to the drain of the internal power MOSFETS.", 10 PGND (power) "Power ground. Connect all power grounds to this pin."

## TPS62060DSGR
designator U?
Buck Step Down Regulator with 2.7 to 6 V Input and 0.8 to 6 V Output, -40 to 85 degC, 8-Pin WSON (DSG), Green (RoHS & no Sb/Br); Manufacturer: Texas Instruments; PartNumber: TPS62060DSGR; Duty Cycle(Max)(%): 100; Iout(Max)(A): 1.6; Iq(Typ)(mA): 0.018; Rating: Catalog; Regulated Outputs(#): 1; SubFamily: Step-Down Regulator; Switch Current Limit(Typ)(A): 2.25; Synchronous Rectification: TRUE; Vin(Max)(V): 6; Vin(Min)(V): 2.7; Vout(Min)(V): 0.8; DatasheetVersion: SLVSA95A; PackageVersion: revB, Oct-2010; PackageReference: DSG8-1600X900TP; PackageDescription: 8-Pin Plastic Small Outline No-Lead, 2 x 2 x 0.8 mm Body, 0.5 mm Pitch, Exposed Pad; Supplier 1: Digi-Key; Supplier Part Number 1: TPS62060DSGR-ND; Eco-Plan: Green (RoHS & no Sb/Br); Topology: Buck; Vout(Max)(V): 6; Mounting Technology: Surface Mount; Code_JEDEC: MO-229; ComponentLink1Description: Datasheet; ComponentLink1URL: http://www.ti.com/general/docs/lit/getliterature.tsp?genericPartNumber=TPS62060&fileType=pdf; ComponentLink2Description: Package Specification; ComponentLink2URL: http://www.ti.com/litv/pdf/mpds308a; ComponentLink3Description: URL Link1; ComponentLink3URL: Samples URL:http://www.ti.com/product/tps62060#samples
footprint DSG8-1600X900TP (SON, 8-Leads, Body 2x2mm, Pitch 0.5mm, Thermal Pad 1.6x0.9mm, TI Recommended)
pins: 1 PGND (power) "GND supply pin for the output stage.", 2 SW (power) "This is the switch pin and is connected to the internal MOSFET switches. Connect the external inductor between this terminal and the output capacitor.", 3 AGND (power) "Analog GND supply pin for the control circuit.", 4 FB (in) "Feedback pin for the internal regulation loop. Connect the external resistor divider to this pin. In case of fixed output voltage option, connect this pin directly to the output capacitor", 5 EN (in) "This is the enable pin of the device. Pulling this pin to low forces the device into shutdown mode. Pulling this pin to high enables the device. This pin must be terminated", 6 MODE (in) "MODE: MODE pin = high forces the device to operate in fixed frequency PWM mode. MODE pin = low enables the Power Save Mode with automatic transition from PFM mode to fixed frequency PWM mode.", 7 AVIN (power) "Analog VIN power supply for the control circuit. Need to be connected to PVIN and input capacitor.", 8 PVIN (power) "VIN power supply pin for the output stage.", 9 PP (power) "For good thermal performance, this PAD must be soldered to the land pattern on the pcb. This PAD should be used as device GND."

## TPS62060DSGT
designator U?
Buck Step Down Regulator with 2.7 to 6 V Input and 0.8 to 6 V Output, -40 to 85 degC, 8-Pin WSON (DSG), Green (RoHS & no Sb/Br); Manufacturer: Texas Instruments; PartNumber: TPS62060DSGT; Duty Cycle(Max)(%): 100; Iout(Max)(A): 1.6; Iq(Typ)(mA): 0.018; Rating: Catalog; Regulated Outputs(#): 1; SubFamily: Step-Down Regulator; Switch Current Limit(Typ)(A): 2.25; Synchronous Rectification: TRUE; Vin(Max)(V): 6; Vin(Min)(V): 2.7; Vout(Min)(V): 0.8; DatasheetVersion: SLVSA95A; PackageVersion: revB, Oct-2010; PackageReference: DSG8-1600X900TP; PackageDescription: 8-Pin Plastic Small Outline No-Lead, 2 x 2 x 0.8 mm Body, 0.5 mm Pitch, Exposed Pad; Supplier 1: Digi-Key; Supplier Part Number 1: 296-27229-2-ND; Eco-Plan: Green (RoHS & no Sb/Br); Topology: Buck; Vout(Max)(V): 6; Mounting Technology: Surface Mount; Code_JEDEC: MO-229; ComponentLink1Description: Datasheet; ComponentLink1URL: http://www.ti.com/general/docs/lit/getliterature.tsp?genericPartNumber=TPS62060&fileType=pdf; ComponentLink2Description: Package Specification; ComponentLink2URL: http://www.ti.com/litv/pdf/mpds308a; ComponentLink3Description: URL Link1; ComponentLink3URL: Samples URL:http://www.ti.com/product/tps54611#samples
footprint DSG8-1600X900TP (SON, 8-Leads, Body 2x2mm, Pitch 0.5mm, Thermal Pad 1.6x0.9mm, TI Recommended)
pins: 1 PGND (power) "GND supply pin for the output stage.", 2 SW (power) "This is the switch pin and is connected to the internal MOSFET switches. Connect the external inductor between this terminal and the output capacitor.", 3 AGND (power) "Analog GND supply pin for the control circuit.", 4 FB (in) "Feedback pin for the internal regulation loop. Connect the external resistor divider to this pin. In case of fixed output voltage option, connect this pin directly to the output capacitor", 5 EN (in) "This is the enable pin of the device. Pulling this pin to low forces the device into shutdown mode. Pulling this pin to high enables the device. This pin must be terminated", 6 MODE (in) "MODE: MODE pin = high forces the device to operate in fixed frequency PWM mode. MODE pin = low enables the Power Save Mode with automatic transition from PFM mode to fixed frequency PWM mode.", 7 AVIN (power) "Analog VIN power supply for the control circuit. Need to be connected to PVIN and input capacitor.", 8 PVIN (power) "VIN power supply pin for the output stage.", 9 PP (power) "For good thermal performance, this PAD must be soldered to the land pattern on the pcb. This PAD should be used as device GND."

## TPS62061DSGR
designator U?
Buck Step Down Regulator with 2.7 to 6 V Input and 1.8 V Output, -40 to 85 degC, 8-Pin WSON (DSG), Green (RoHS & no Sb/Br); Manufacturer: Texas Instruments; PartNumber: TPS62061DSGR; Duty Cycle(Max)(%): 100; Iout(Max)(A): 1.6; Iq(Typ)(mA): 0.018; Preset Vout(V): 1.8; Rating: Catalog; Regulated Outputs(#): 1; SubFamily: Step-Down Regulator; Switch Current Limit(Typ)(A): 2.25; Synchronous Rectification: TRUE; Vin(Max)(V): 6; Vin(Min)(V): 2.7; DatasheetVersion: SLVSA95A; PackageVersion: revB, Oct-2010; PackageReference: DSG8-1600X900TP; PackageDescription: 8-Pin Plastic Small Outline No-Lead, 2 x 2 x 0.8 mm Body, 0.5 mm Pitch, Exposed Pad; Supplier 1: Digi-Key; Supplier Part Number 1: TPS62061DSGR-ND; Eco-Plan: Green (RoHS & no Sb/Br); Topology: Buck; Vout(Max)(V): 1.8; Vout(Min)(V): 1.8; Mounting Technology: Surface Mount; Code_JEDEC: MO-229; ComponentLink1Description: Datasheet; ComponentLink1URL: http://www.ti.com/general/docs/lit/getliterature.tsp?genericPartNumber=TPS62061&fileType=pdf; ComponentLink2Description: Package Specification; ComponentLink2URL: http://www.ti.com/litv/pdf/mpds308a; ComponentLink3Description: URL Link1; ComponentLink3URL: Samples URL:http://www.ti.com/product/tps62061#samples
footprint DSG8-1600X900TP (SON, 8-Leads, Body 2x2mm, Pitch 0.5mm, Thermal Pad 1.6x0.9mm, TI Recommended)
pins: 1 PGND (power) "GND supply pin for the output stage.", 2 SW (power) "This is the switch pin and is connected to the internal MOSFET switches. Connect the external inductor between this terminal and the output capacitor.", 3 AGND (power) "Analog GND supply pin for the control circuit.", 4 FB "Feedback pin for the internal regulation loop. Connect the external resistor divider to this pin. In case of fixed output voltage option, connect this pin directly to the output capacitor", 5 EN (in) "This is the enable pin of the device. Pulling this pin to low forces the device into shutdown mode. Pulling this pin to high enables the device. This pin must be terminated", 6 MODE (in) "MODE: MODE pin = high forces the device to operate in fixed frequency PWM mode. MODE pin = low enables the Power Save Mode with automatic transition from PFM mode to fixed frequency PWM mode.", 7 AVIN (power) "Analog VIN power supply for the control circuit. Need to be connected to PVIN and input capacitor.", 8 PVIN (power) "VIN power supply pin for the output stage.", 9 PP (power) "For good thermal performance, this PAD must be soldered to the land pattern on the pcb. This PAD should be used as device GND."

## TPS62061DSGT
designator U?
Buck Step Down Regulator with 2.7 to 6 V Input and 1.8 V Output, -40 to 85 degC, 8-Pin WSON (DSG), Green (RoHS & no Sb/Br); Manufacturer: Texas Instruments; PartNumber: TPS62061DSGT; Duty Cycle(Max)(%): 100; Iout(Max)(A): 1.6; Iq(Typ)(mA): 0.018; Preset Vout(V): 1.8; Rating: Catalog; Regulated Outputs(#): 1; SubFamily: Step-Down Regulator; Switch Current Limit(Typ)(A): 2.25; Synchronous Rectification: TRUE; Vin(Max)(V): 6; Vin(Min)(V): 2.7; DatasheetVersion: SLVSA95A; PackageVersion: revB, Oct-2010; PackageReference: DSG8-1600X900TP; PackageDescription: 8-Pin Plastic Small Outline No-Lead, 2 x 2 x 0.8 mm Body, 0.5 mm Pitch, Exposed Pad; Supplier 1: Digi-Key; Supplier Part Number 1: 296-28459-2-ND; Eco-Plan: Green (RoHS & no Sb/Br); Topology: Buck; Vout(Max)(V): 1.8; Vout(Min)(V): 1.8; Mounting Technology: Surface Mount; Code_JEDEC: MO-229; ComponentLink1Description: Datasheet; ComponentLink1URL: http://www.ti.com/general/docs/lit/getliterature.tsp?genericPartNumber=TPS62061&fileType=pdf; ComponentLink2Description: Package Specification; ComponentLink2URL: http://www.ti.com/litv/pdf/mpds308a; ComponentLink3Description: URL Link1; ComponentLink3URL: Samples URL:http://www.ti.com/product/tps54611#samples
footprint DSG8-1600X900TP (SON, 8-Leads, Body 2x2mm, Pitch 0.5mm, Thermal Pad 1.6x0.9mm, TI Recommended)
pins: 1 PGND (power) "GND supply pin for the output stage.", 2 SW (power) "This is the switch pin and is connected to the internal MOSFET switches. Connect the external inductor between this terminal and the output capacitor.", 3 AGND (power) "Analog GND supply pin for the control circuit.", 4 FB "Feedback pin for the internal regulation loop. Connect the external resistor divider to this pin. In case of fixed output voltage option, connect this pin directly to the output capacitor", 5 EN (in) "This is the enable pin of the device. Pulling this pin to low forces the device into shutdown mode. Pulling this pin to high enables the device. This pin must be terminated", 6 MODE (in) "MODE: MODE pin = high forces the device to operate in fixed frequency PWM mode. MODE pin = low enables the Power Save Mode with automatic transition from PFM mode to fixed frequency PWM mode.", 7 AVIN (power) "Analog VIN power supply for the control circuit. Need to be connected to PVIN and input capacitor.", 8 PVIN (power) "VIN power supply pin for the output stage.", 9 PP (power) "For good thermal performance, this PAD must be soldered to the land pattern on the pcb. This PAD should be used as device GND."